# Altium footprint library tr_s6.PcbLib: 40 footprints (part 2 of 3)
Each footprint in its own frame and in the unit in brackets; x right, y up, seen from the top. Pads: shape width x height; smd on the part's side, far side on the other; paste and mask are expansions set on the pad; w line width, h text height; cw(c..) or ccw(c..) is an arc to the next point about the centre after c.
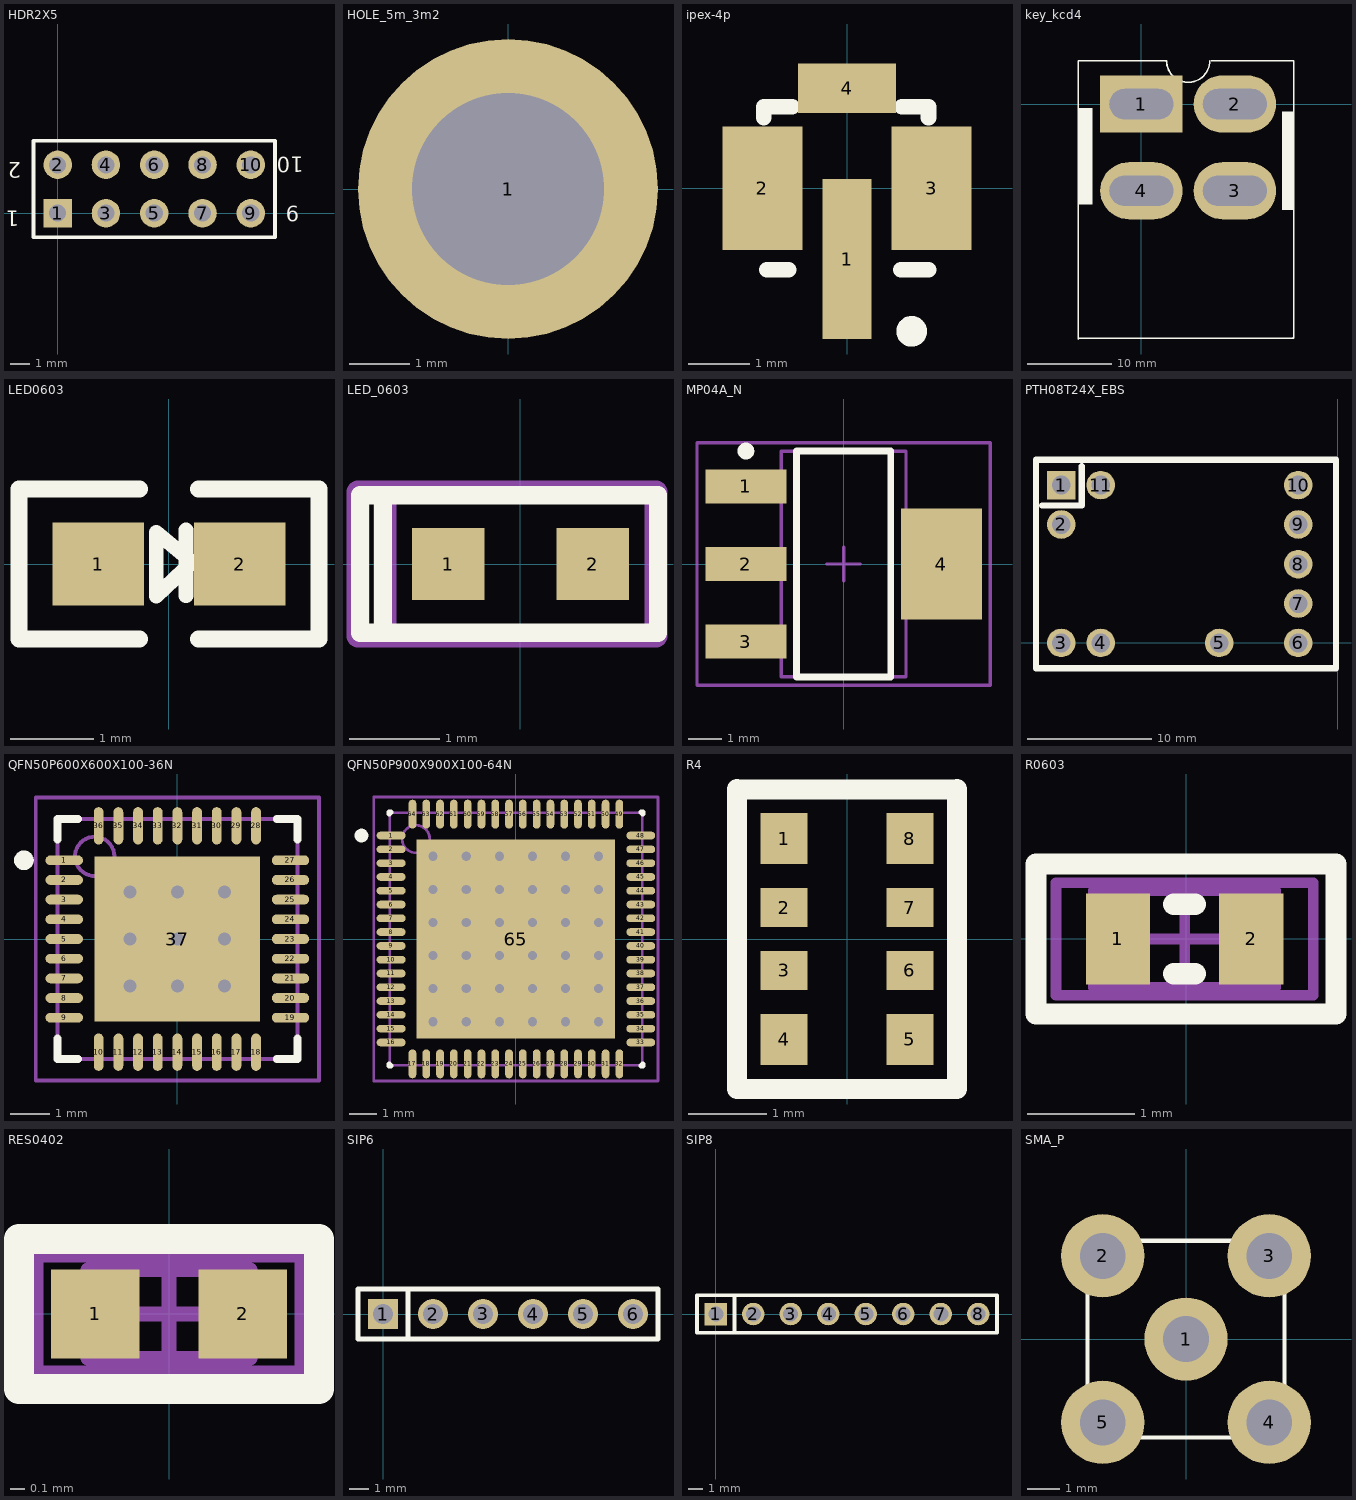
[diagram p1: the footprints below, top view; thin cyan lines are the x and y axes]

## HDR2X5 [mm] "Connector; Header; 5x2 Position"
pads (10):
  rect 1.5x1.5 hole 0.9: 1(0,0)
  round 1.5 hole 0.9: 2(0,2.54) 3(2.54,0) 4(2.54,2.54) 5(5.08,0) 6(5.08,2.54) 7(7.62,0) 8(7.62,2.54) 9(10.16,0) 10(10.16,2.54)
Top Overlay:
  lines w0.2: -1.27,-1.27 11.43,-1.27 11.43,3.81 -1.27,3.81 -1.27,-1.27
  text "10" at 12.934,2.975 h0.81
  text "9" at 12.7,0.381 h0.81
  text "1" at -2.032,0.127 h0.81
  text "2" at -1.905,2.667 h0.81

## HOLE_5m_3m2 [mm] "hole=3.2mm;circle=5mm"
height 5.842
pads (1):
  round 5 hole 3.2: 1(0,0)

## ipex-4p [mm] "4 pin,pad pitch 2.6mm,cylinder 2mm"
height 1.25
pads (4):
  rect 0.8x2.6 smd: 1(0,-1.15)
  rect 1.3x2 smd: 2(-1.375,0) 3(1.375,0)
  rect 1.6x0.8 smd: 4(0,1.625)
Top Overlay:
  circle w0.25: c1.05,-2.325 r0.125
  lines w0.254: -1.35,1.143 -1.35,1.325 -0.889,1.325 ; -1.3,-1.325 -0.95,-1.325 ; 0.875,-1.325 1.325,-1.325 ; 0.889,1.325 1.325,1.325 1.325,1.143

## key_kcd4 [mm] "kcd4,4pin,32*25"
height 28
pads (4):
  rect 9.8x6.8 hole 3.6 slot 7.6 at 0 deg: 1(0,0)
  oval 9.8x6.8 hole 3.6 slot 7.6 at 0 deg: 2(11.1,0) 3(11.1,-10.3) 4(0,-10.3)
Top Overlay:
  rectangle: -7.499,-11.963 -5.841,-0.457
  rectangle: 16.687,-12.573 18.1,-0.889
  lines w0.2: -7.518,-27.855 18.009,-27.788 ; -7.518,5.15 2.87,5.15 ; -7.5,-27.915 -7.5,5.15 ; 2.975,5.15 ccw(c5.55,5.15) 8.125,5.15 ; 8.28,5.15 18.1,5.15 18.1,-27.813

## LED0603 [mm]
height 5.842
pads (2):
  rect 1.1x1 smd: 1(-0.85,0) 2(0.85,0)
Top Overlay:
  lines w0.178: 0.203,-0.381 0.203,0.406 ; -0.152,-0.383 -0.152,0.379 0.279,0.023 -0.152,-0.383
  lines w0.2: -0.35,-0.9 -1.8,-0.9 -1.8,0.9 -0.35,0.9 ; 0.35,-0.9 1.8,-0.9 1.8,0.9 0.35,0.9

## LED_0603 [mm]
height 2.5
pads (2):
  rect 0.8x0.8 smd: 1(-0.8,0) 2(0.8,0)
Top Overlay:
  lines w0.2: -1.524,-0.762 -1.524,0.762 ; -1.778,-0.762 -1.778,0.762 1.524,0.762 1.524,-0.762 -1.778,-0.762
Mechanical 16:
  lines w0.254: -1.5,-0.8 -1.5,0.8 ; -1.8,-0.8 1.5,-0.8 1.5,0.8 -1.8,0.8 -1.8,-0.8
  text ".Designator" at 0.4,0.3 h0.81
3D body: height 0.66, standoff 0.5, extent -0.2,-0.2 0.2,0.2
3D body "LED SMD 0603.step": height 0.65, standoff 0, extent -0.85,-0.4 0.85,0.4

## MP04A_N [mm] "SOT223, 4-Leads, Body 6.5x3.5mm, Pitch 2.3mm, Lead Span 7mm, IPC Medium Density"
height 1.8
pads (4):
  rect 2.4x1 smd: 1(-2.9,2.3) 2(-2.9,0) 3(-2.9,-2.3)
  rect 2.4x3.3 smd: 4(2.9,0)
Top Overlay:
  circle w0.25: c-2.9,3.35 r0.125
  lines w0.2: -1.4,-3.35 1.4,-3.35 1.4,3.35 -1.4,3.35 -1.4,-3.35
Mechanical 13:
  lines w0.1: -1.85,-3.35 1.85,-3.35 1.85,3.35 -1.85,3.35 -1.85,-3.35
Mechanical 15:
  lines w0.1: -0.5,0 0.5,0 ; 0,-0.5 0,0.5 ; -4.35,-3.6 4.35,-3.6 4.35,3.6 -4.35,3.6 -4.35,-3.6
3D body "TO-223.STEP": height 1.64, standoff -0.04, extent -3.49,-3.242 3.49,3.242

## PTH08T24X_EBS [mm] "EBS,Throught-Hole-Model"
height 5.842
pads (11):
  rect 2.3x2.3 hole 1.5: 1(-22.23,12.7)
  round 2.3 hole 1.5: 2(-22.23,9.53) 3(-22.23,0) 4(-19.06,0) 5(-9.53,0) 6(-3.17,0) 7(-3.17,3.17) 8(-3.17,6.34) 9(-3.17,9.53) 10(-3.17,12.7) 11(-19.06,12.7)
Top Overlay:
  lines w0.508: -23.754,11.049 -20.574,11.049 -20.574,14.224 ; -24.262,-2.032 -24.262,14.732 -0.127,14.732 -0.127,10.541 -0.127,2.159 -0.127,-2.032 -24.262,-2.032

## QFN50P600X600X100-36N [mm] "QFN, 36-Leads, Body 6.1x6.1mm (max), Pitch 0.50mm, IPC Medium Density"
height 1
pads (37):
  oval 0.95x0.25 smd: 1(-2.875,2) 2(-2.875,1.5) 3(-2.875,1) 4(-2.875,0.5) 5(-2.875,0) 6(-2.875,-0.5) 7(-2.875,-1) 8(-2.875,-1.5) 9(-2.875,-2) 19(2.875,-2) 20(2.875,-1.5) 21(2.875,-1) 22(2.875,-0.5) 23(2.875,0) 24(2.875,0.5) 25(2.875,1) 26(2.875,1.5) 27(2.875,2)
  oval 0.25x0.95 smd: 10(-2,-2.875) 11(-1.5,-2.875) 12(-1,-2.875) 13(-0.5,-2.875) 14(0,-2.875) 15(0.5,-2.875) 16(1,-2.875) 17(1.5,-2.875) 18(2,-2.875) 28(2,2.875) 29(1.5,2.875) 30(1,2.875) 31(0.5,2.875) 32(0,2.875) 33(-0.5,2.875) 34(-1,2.875) 35(-1.5,2.875) 36(-2,2.875)
  rect 4.2x4.2 smd: 37(0,0)
via -1.2,0 diameter 0.66 hole 0.33
via 1.2,0 diameter 0.66 hole 0.33
via -1.2,-1.2 diameter 0.66 hole 0.33
via 1.2,-1.2 diameter 0.66 hole 0.33
via 0,0 diameter 0.66 hole 0.33
via 0,-1.2 diameter 0.66 hole 0.33
via -1.2,1.2 diameter 0.66 hole 0.33
via 1.2,1.2 diameter 0.66 hole 0.33
via 0,1.2 diameter 0.66 hole 0.33
Top Overlay:
  circle w0.25: c-3.9,2 r0.125
  lines w0.2: -3.05,-2.525 -3.05,-3.05 -2.525,-3.05 ; -3.05,2.525 -3.05,3.05 -2.525,3.05 ; 2.525,-3.05 3.05,-3.05 3.05,-2.525 ; 2.525,3.05 3.05,3.05 3.05,2.525
Mechanical 13:
  circle w0.1: c-2.1,2.1 r0.5
  lines w0.1: -3.05,-3.05 -3.05,3.05 3.05,3.05 3.05,-3.05 -3.05,-3.05
Mechanical 15:
  lines w0.1: -0.5,0 0.5,0 ; 0,-0.5 0,0.5 ; -3.6,-3.6 -3.6,3.6 3.6,3.6 3.6,-3.6 -3.6,-3.6
3D body: height 1, standoff 0.01, extent -3.05,-3.05 3.05,3.05

## QFN50P900X900X100-64N [mm] "QFN, 64-Leads, Body 9.1x9.1mm (max), Pitch 0.50mm, IPC Medium Density"
height 1
pads (65):
  oval 1.05x0.28 smd: 1(-4.525,3.75) 2(-4.525,3.25) 3(-4.525,2.75) 4(-4.525,2.25) 5(-4.525,1.75) 6(-4.525,1.25) 7(-4.525,0.75) 8(-4.525,0.25) 9(-4.525,-0.25) 10(-4.525,-0.75) 11(-4.525,-1.25) 12(-4.525,-1.75) 13(-4.525,-2.25) 14(-4.525,-2.75) 15(-4.525,-3.25) 16(-4.525,-3.75) 33(4.525,-3.75) 34(4.525,-3.25) 35(4.525,-2.75) 36(4.525,-2.25) 37(4.525,-1.75) 38(4.525,-1.25) 39(4.525,-0.75) 40(4.525,-0.25) 41(4.525,0.25) 42(4.525,0.75) 43(4.525,1.25) 44(4.525,1.75) 45(4.525,2.25) 46(4.525,2.75) 47(4.525,3.25) 48(4.525,3.75)
  oval 0.28x1.05 smd: 17(-3.75,-4.525) 18(-3.25,-4.525) 19(-2.75,-4.525) 20(-2.25,-4.525) 21(-1.75,-4.525) 22(-1.25,-4.525) 23(-0.75,-4.525) 24(-0.25,-4.525) 25(0.25,-4.525) 26(0.75,-4.525) 27(1.25,-4.525) 28(1.75,-4.525) 29(2.25,-4.525) 30(2.75,-4.525) 31(3.25,-4.525) 32(3.75,-4.525) 49(3.75,4.525) 50(3.25,4.525) 51(2.75,4.525) 52(2.25,4.525) 53(1.75,4.525) 54(1.25,4.525) 55(0.75,4.525) 56(0.25,4.525) 57(-0.25,4.525) 58(-0.75,4.525) 59(-1.25,4.525) 60(-1.75,4.525) 61(-2.25,4.525) 62(-2.75,4.525) 63(-3.25,4.525) 64(-3.75,4.525)
  rect 7.2x7.2 smd: 65(0,0)
via -3,3 diameter 0.66 hole 0.33
via -1.8,3 diameter 0.66 hole 0.33
via 0.6,3 diameter 0.66 hole 0.33
via 3,3 diameter 0.66 hole 0.33
via 1.8,3 diameter 0.66 hole 0.33
via -3,1.8 diameter 0.66 hole 0.33
via -1.8,1.8 diameter 0.66 hole 0.33
via 0.6,1.8 diameter 0.66 hole 0.33
via 3,1.8 diameter 0.66 hole 0.33
via 1.8,1.8 diameter 0.66 hole 0.33
via -3,-0.6 diameter 0.66 hole 0.33
via -1.8,-0.6 diameter 0.66 hole 0.33
via 0.6,-0.6 diameter 0.66 hole 0.33
via 3,-0.6 diameter 0.66 hole 0.33
via 1.8,-0.6 diameter 0.66 hole 0.33
via -3,-3 diameter 0.66 hole 0.33
via -1.8,-3 diameter 0.66 hole 0.33
via 0.6,-3 diameter 0.66 hole 0.33
via 3,-3 diameter 0.66 hole 0.33
via 1.8,-3 diameter 0.66 hole 0.33
via -0.6,3 diameter 0.66 hole 0.33
via -0.6,1.8 diameter 0.66 hole 0.33
via -0.6,-0.6 diameter 0.66 hole 0.33
via -0.6,-3 diameter 0.66 hole 0.33
via -3,-1.8 diameter 0.66 hole 0.33
via -3,0.6 diameter 0.66 hole 0.33
via -1.8,-1.8 diameter 0.66 hole 0.33
via -1.8,0.6 diameter 0.66 hole 0.33
via 0.6,-1.8 diameter 0.66 hole 0.33
via 0.6,0.6 diameter 0.66 hole 0.33
via 3,-1.8 diameter 0.66 hole 0.33
via 1.8,-1.8 diameter 0.66 hole 0.33
via 3,0.6 diameter 0.66 hole 0.33
via 1.8,0.6 diameter 0.66 hole 0.33
via -0.6,-1.8 diameter 0.66 hole 0.33
via -0.6,0.6 diameter 0.66 hole 0.33
Top Overlay:
  circle w0.25: c-5.6,3.75 r0.125
  lines w0.2: -4.6,-4.54 -4.6,-4.6 -4.54,-4.6 ; -4.6,4.54 -4.6,4.6 -4.54,4.6 ; 4.54,-4.6 4.6,-4.6 4.6,-4.54 ; 4.54,4.6 4.6,4.6 4.6,4.54
Mechanical 13:
  circle w0.1: c-3.625,3.625 r0.5
  lines w0.1: -4.575,-4.575 4.575,-4.575 4.575,4.575 -4.575,4.575 -4.575,-4.575
Mechanical 15:
  lines w0.1: -0.5,0 0.5,0 ; 0,-0.5 0,0.5 ; -5.15,-5.15 5.15,-5.15 5.15,5.15 -5.15,5.15 -5.15,-5.15
3D body: height 1, standoff 0.01, extent -4.575,-4.575 4.575,4.575

## R4 [mm]
height 2.5
pads (8):
  rect 0.6x0.65 smd mask+0.025: 1(-0.8,1.275) 4(-0.8,-1.275) 5(0.8,-1.275) 8(0.8,1.275)
  rect 0.6x0.5 smd mask+0.025: 2(-0.8,0.4) 3(-0.8,-0.4) 6(0.8,-0.4) 7(0.8,0.4)
Top Overlay:
  lines w0.254: -1.4,1.9 1.4,1.9 ; -1.397,1.905 -1.397,-1.905 1.397,-1.905 1.397,1.905
Mechanical 16:
  text ".Designator" at -0.2,0.7 h0.81
3D body: height 1, standoff 0, extent -1.143,-1.651 1.143,1.651

## R0603 [mm]
height 2.5
pads (2):
  rect 0.6x0.85 smd: 1(-0.635,0) 2(0.609,0)
Top Overlay:
  lines w0.2: -0.113,-0.325 0.087,-0.325 ; -0.113,0.325 0.087,0.325 ; -1.4,-0.7 1.4,-0.7 1.4,0.7 -1.4,0.7 -1.4,-0.7
Mechanical 13:
  lines w0.1: -0.863,-0.45 -0.863,0.45 0.837,0.45 0.837,-0.45 -0.863,-0.45
Mechanical 15:
  lines w0.1: -0.463,0 0.437,0 ; -0.013,-0.45 -0.013,0.45 ; -1.213,-0.525 -1.213,0.525 1.187,0.525 1.187,-0.525 -1.213,-0.525
Mechanical 16:
  lines w0.15: -1.4,-0.7 -1.4,0.7 1.4,0.7 1.4,-0.7 -1.4,-0.7
  text ".Designator" at 2.075,1.351 h0.81
3D body "0603.STEP": height 0.45, standoff 0, extent -0.775,-0.381 0.749,0.381

## RES0402 [mm]
height 5.842
pads (2):
  rect 0.6x0.6 smd: 1(-0.5,0) 2(0.5,0)
Top Overlay:
  lines w0.2: -1.016,-0.508 1.016,-0.508 1.016,0.508 -1.016,0.508 -1.016,-0.508
Mechanical 13:
  lines w0.1: -0.55,-0.3 -0.55,0.3 0.55,0.3 0.55,-0.3 -0.55,-0.3
Mechanical 15:
  lines w0.1: -0.3,0 0.3,0 ; 0,-0.3 0,0.3 ; -0.9,-0.4 0.9,-0.4 0.9,0.4 -0.9,0.4 -0.9,-0.4
3D body: height 0.6, standoff 0, extent -0.55,-0.3 0.55,0.3

## SIP6 [mil] "Pitch=2.54,6 pin"
height 196.85
pads (6):
  rect 60x60 hole 40: 1(0,0)
  round 60 hole 40: 2(100,0) 3(200,0) 4(300,0) 5(400,0) 6(500,0)
Top Overlay:
  lines w10: 50,-50 50,50 ; -50,-50 550,-50 550,50 -50,50 -50,-50

## SIP8 [mil] "pitch=2.54"
height 230
pads (8):
  rect 60x60 hole 40: 1(0,0)
  round 60 hole 40: 2(100,0) 3(200,0) 4(300,0) 5(400,0) 6(500,0) 7(600,0) 8(700,0)
Top Overlay:
  lines w10: 50,-50 50,50 ; -50,-50 750,-50 750,50 -50,50 -50,-50

## SMA_P [mm] "SMA_P"
height 5.842
pads (5):
  round 2.54 hole 1.4: 1(0,0) 2(-2.54,2.54) 3(2.54,2.54) 4(2.54,-2.54) 5(-2.54,-2.54)
Top Overlay:
  lines w0.127: -3,-3 3,-3 3,3 -3,3 -3,-3
Mechanical 9:
  text "5" at -2.794,-2.54 h0.81
  text "4" at 2.286,-2.54 h0.81
  text "2" at -2.794,2.54 h0.81
  text "3" at 2.286,2.54 h0.81
  text "1" at -0.254,0 h0.81